# Altium footprint library wqfn_20_p50_300x400x80_l40x20_t270x170.PcbLib: 1 footprints
Each footprint in its own frame and in the unit in brackets; x right, y up, seen from the top. Pads: shape width x height; smd on the part's side, far side on the other; paste and mask are expansions set on the pad; w line width, h text height; cw(c..) or ccw(c..) is an arc to the next point about the centre after c.
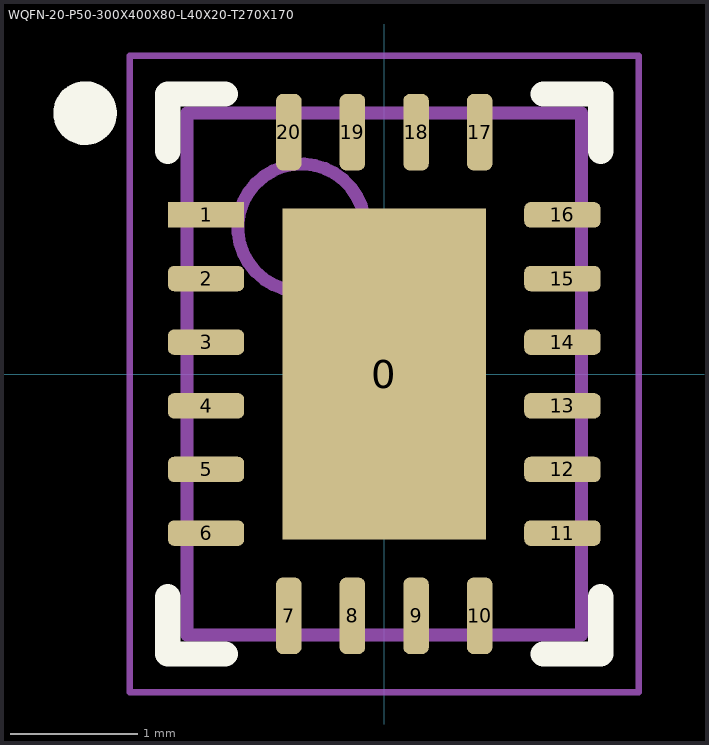
[diagram p0: the footprint, top view; thin cyan lines are the x and y axes]

## WQFN-20-P50-300X400X80-L40X20-T270X170 [mm] "QFN, 20-Leads, Body 3,00x4,00mm, Pitch 0,50mm, Thermal Pad 1,60x2,60mm, IPC Medium Density"
height 0.8
pads (21):
  rect 1.6x2.6 smd: 0(0,0)
  rect 0.6x0.2 smd: 1(-1.4,1.25)
  rrect50% 0.6x0.2 smd: 2(-1.4,0.75) 3(-1.4,0.25) 4(-1.4,-0.25) 5(-1.4,-0.75) 6(-1.4,-1.25) 11(1.4,-1.25) 12(1.4,-0.75) 13(1.4,-0.25) 14(1.4,0.25) 15(1.4,0.75) 16(1.4,1.25)
  rrect50% 0.2x0.6 smd: 7(-0.75,-1.9) 8(-0.25,-1.9) 9(0.25,-1.9) 10(0.75,-1.9) 17(0.75,1.9) 18(0.25,1.9) 19(-0.25,1.9) 20(-0.75,1.9)
Top Overlay:
  circle w0.25: c-2.35,2.05 r0.125
  lines w0.2: -1.7,-1.75 -1.7,-2.2 -1.25,-2.2 ; -1.7,1.75 -1.7,2.2 -1.25,2.2 ; 1.25,-2.2 1.7,-2.2 1.7,-1.75 ; 1.25,2.2 1.7,2.2 1.7,1.75
Top Comment:
  text ".Comment" at 1.1,3 h1.2
Top Designator:
  text ".Designator" at -0.4,3 h1.2
Top Component Outline:
  circle w0.1: c-0.65,1.15 r0.5
  lines w0.1: -1.55,-2.05 1.55,-2.05 1.55,2.05 -1.55,2.05 -1.55,-2.05
Top Courtyard (Mech15):
  lines w0.05: -2,-2.5 2,-2.5 2,2.5 -2,2.5 -2,-2.5
  lines w0.1: -0.5,0 0.5,0 ; 0,-0.5 0,0.5
3D body "WQFN-20.STEP": height 0.8, standoff 0, extent -1.5,-2 1.5,2